# EAGLE library part UCC2752X (library piccoli)
Dual 5-A High-Speed Low-Side Gate Driver
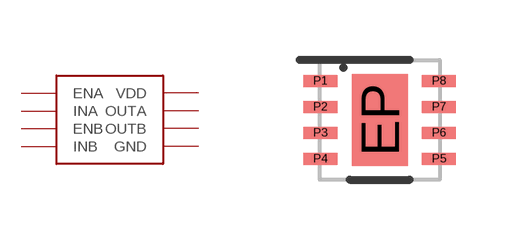
[diagram p22: symbol with the pads of 8-WDFN; footprint 8-WDFN]

Designator prefix U

## UCC2752XUCC27523DSD  [8-WDFN]
EP  GND  pwr
P1  ENA  in
P2  INA  in
P3  GND  pwr
P4  INB  in
P5  OUTB  out
P6  VDD  pwr
P7  OUTA  out
P8  ENB  in

## UCC2752XUCC27524DSD  [8-WDFN]
Pads as for 8-WDFN

## UCC2752XUCC27525DSD  [8-WDFN]
Pads as for 8-WDFN

## Footprint 8-WDFN (pad centres in mm)
smd 1.4 x 2.3: EP 0,0
smd 0.85 x 0.3: P1 -1.485,0.975; P2 -1.485,0.325; P3 -1.485,-0.325; P4 -1.485,-0.975; P5 1.485,-0.975; P6 1.485,-0.325; P7 1.485,0.325; P8 1.485,0.975